# EAGLE library part BTS7960B (library BTS7960B)
Half Bridge Motor Driver 7-Pin(6+Tab) TO-263
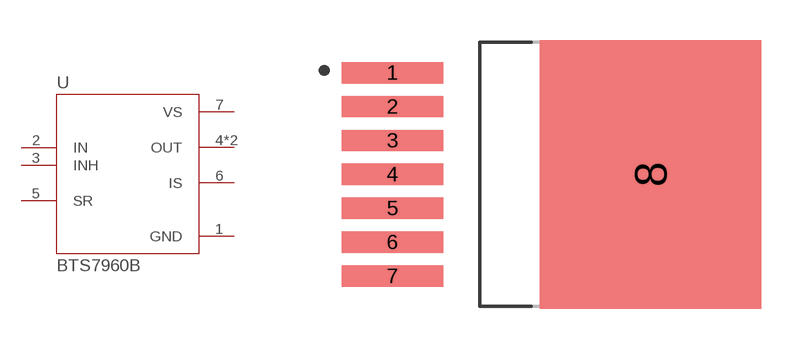
[diagram p0: symbol with the pads of DPAK127P1490X440-8N; footprint DPAK127P1490X440-8N]

Designator prefix U

## BTS7960B (Description: Half Bridge Driver DC Motors, General Purpose DMOS PG-TO263-7-1; Digi-Key_Part_Number: BTS7960BINTR-ND; MF: Infineon; MP: BTS7960B; Package: TO-263 Infineon; Purchase-URL: https://pricing.snapeda.com/search/part/BTS7960B/?ref=eda)  [DPAK127P1490X440-8N]
1  GND  pwr
2  IN  in
3  INH  in
4  OUT  out
5  SR  in
6  IS  out
7  VS  pwr
8  OUT  out

## Footprint DPAK127P1490X440-8N (pad centres in mm)
smd 3.81 x 0.8: 1 -5.95,3.81; 2 -5.95,2.54; 3 -5.95,1.27; 4 -5.95,0; 5 -5.95,-1.27; 6 -5.95,-2.54; 7 -5.95,-3.81
smd 8.29 x 10.07: 8 3.71,0